# EAGLE library part FANET_MODULE (library fanet)
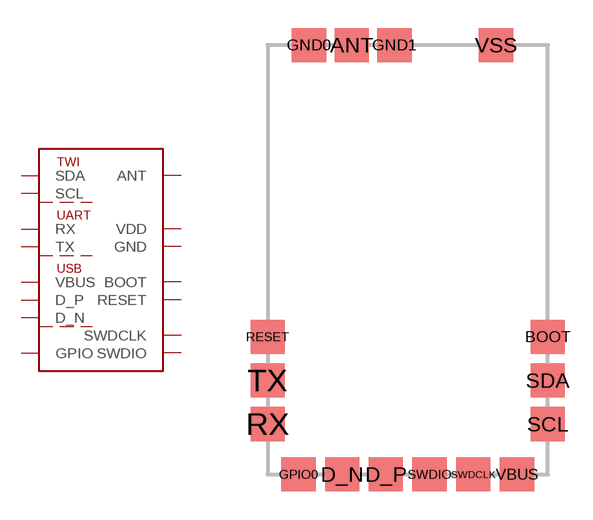
[diagram p0: symbol with the pads of FANET_INTERNAL; footprint FANET_INTERNAL]

Designator prefix -

## FANET_MODULE  [FANET_INTERNAL]
ANT  ANT
BOOT  BOOT
D_N  D_N
D_P  D_P
GND0  GND
GND1  GND
GPIO0  GPIO
RESET  RESET
RX  RX
SCL  SCL
SDA  SDA
SWDCLK  SWDCLK
SWDIO  SWDIO
TX  TX
VBUS  VBUS
VSS  VDD

## Footprint FANET_INTERNAL (pad centres in mm)
smd 1.829 x 1.829: ANT -2.997,14.3; BOOT 7.493,-1.321; D_N -3.505,-8.687; D_P -1.168,-8.687; GND0 -5.283,14.3; GND1 -0.711,14.3; GPIO0 -5.842,-8.687; RESET -7.493,-1.321; RX -7.493,-5.994; SCL 7.493,-5.994; SDA 7.493,-3.658; SWDCLK 3.505,-8.687; SWDIO 1.168,-8.687; TX -7.493,-3.658; VBUS 5.842,-8.687; VSS 4.724,14.3